# Altium footprint library WiCAN_lib.PcbLib: 21 footprints (part 1 of 2)
Each footprint in its own frame and in the unit in brackets; x right, y up, seen from the top. Pads: shape width x height; smd on the part's side, far side on the other; paste and mask are expansions set on the pad; w line width, h text height; cw(c..) or ccw(c..) is an arc to the next point about the centre after c.
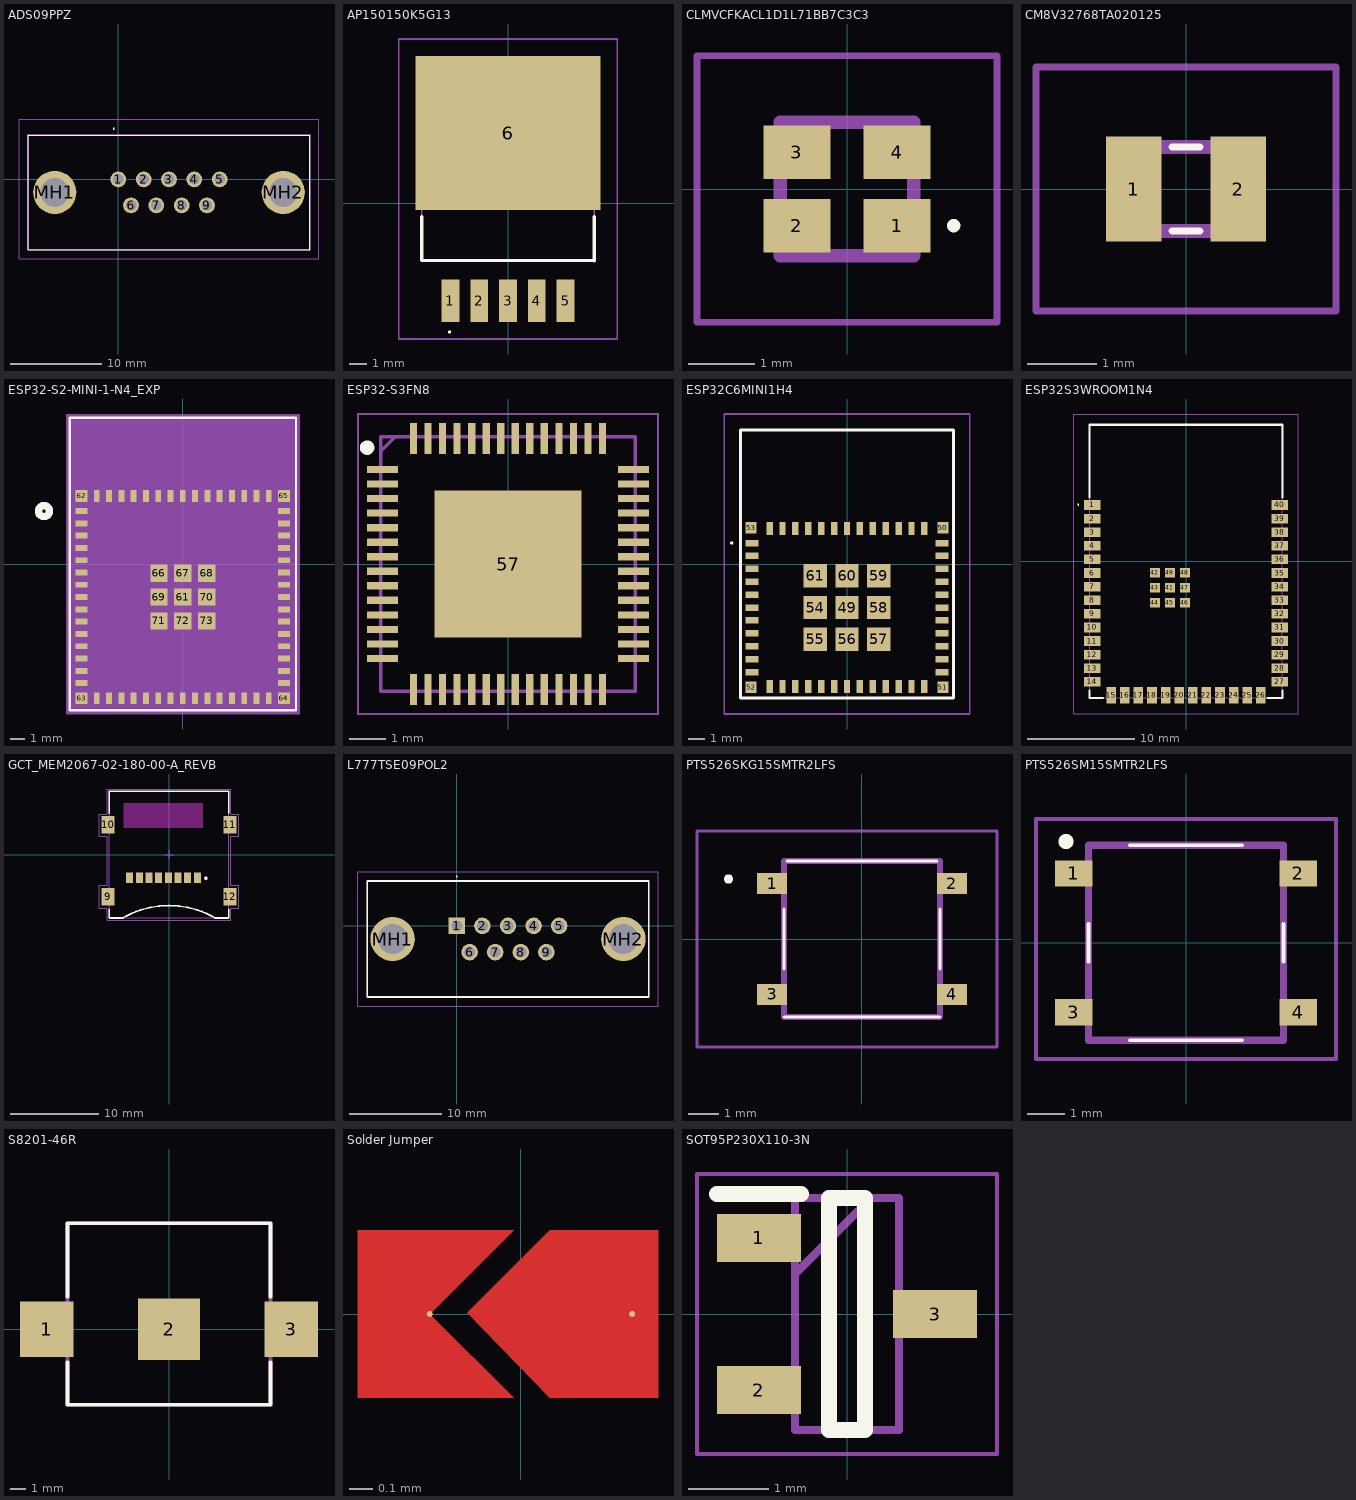
[diagram p0: the footprints below, top view; thin cyan lines are the x and y axes]

## ADS09PPZ [mm]
pads (11):
  round 1.725 hole 1.15: 1(0,0) 2(2.77,0) 3(5.54,0) 4(8.31,0) 5(11.08,0) 6(1.385,-2.84) 7(4.155,-2.84) 8(6.925,-2.84) 9(9.695,-2.84)
  round 4.725 hole 3.15: MH1(-6.955,-1.42) MH2(18.035,-1.42)
Top Overlay:
  lines w0.1: -9.865,-7.695 -9.865,4.855 20.945,4.855 20.945,-7.695 -9.865,-7.695 ; -0.5,5.5 cw(c-0.5,5.55) -0.5,5.6 cw(c-0.5,5.55) -0.5,5.5
Mechanical 13:
  lines w0.2: -9.865,-7.695 -9.865,4.855 20.945,4.855 20.945,-7.695 -9.865,-7.695
Mechanical 15:
  lines w0.1: -10.865,-8.695 -10.865,6.6 21.945,6.6 21.945,-8.695 -10.865,-8.695
3D body "connector_a-ds_09_pp_z.stp": height 12.6, standoff -4.6, extent -9.865,-7.695 20.945,4.855

## AP150150K5G13 [mm]
pads (6):
  rect 1.05x2.5 smd: 1(-3.4,-5.765) 2(-1.7,-5.765) 3(0,-5.765) 4(1.7,-5.765) 5(3.4,-5.765)
  rect 10.9x9.1 smd: 6(0,4.135)
Top Overlay:
  lines w0.1: -3.5,-7.6 ccw(c-3.45,-7.6) -3.4,-7.6 ccw(c-3.45,-7.6) -3.5,-7.6
  lines w0.2: -5.08,-0.8 -5.08,-3.385 5.08,-3.4 5.08,-0.8
Mechanical 13:
  lines w0.1: -5.08,-3.385 -5.08,5.765 5.08,5.765 5.08,-3.385 -5.08,-3.385
Mechanical 15:
  lines w0.1: -6.45,-8.015 -6.45,9.685 6.45,9.685 6.45,-8.015 -6.45,-8.015
3D body: height 4.85, standoff 0, extent -5.512,-3.327 5.486,8.712

## CLMVCFKACL1D1L71BB7C3C3 [mm]
pads (4):
  rect 1x0.8 smd: 1(0.75,-0.55) 2(-0.75,-0.55) 3(-0.75,0.55) 4(0.75,0.55)
Top Overlay:
  lines w0.1: 1.6,-0.6 ccw(c1.6,-0.55) 1.6,-0.5 ccw(c1.6,-0.55) 1.6,-0.6
Mechanical 13:
  lines w0.2: -1,-1 -1,1 1,1 1,-1 -1,-1
Mechanical 15:
  lines w0.1: -2.25,-2 -2.25,2 2.25,2 2.25,-2 -2.25,-2
3D body "CLMVC-FKA-CL1D1L71BB7C3C3.stp": height 1.1, standoff 0, extent -1,-1 1,1

## CM8V32768TA020125 [mm]
pads (2):
  rect 0.8x1.5 smd: 1(-0.75,0) 2(0.75,0)
Top Overlay:
  lines w0.1: -0.2,-0.6 0.2,-0.6 ; -0.2,0.6 0.2,0.6
Mechanical 13:
  lines w0.2: -1,-0.6 -1,0.6 1,0.6 1,-0.6 -1,-0.6
Mechanical 15:
  lines w0.1: -2.15,-1.75 -2.15,1.75 2.15,1.75 2.15,-1.75 -2.15,-1.75
3D body "CM8V-T1A-32.768kHz-7pF-20PPM-TA-QC.stp": height 0.6, standoff 0, extent -1,-0.6 1,0.6

## ESP32-S2-MINI-1-N4_EXP [mil]
pads (73):
  rect 32x16 smd paste+0 mask+0: 1(-275.59,144.15) 2(-275.59,110.69) 3(-275.59,77.22) 4(-275.59,43.76) 5(-275.59,10.29) 6(-275.59,-23.17) 7(-275.59,-56.63) 8(-275.59,-90.1) 9(-275.59,-123.56) 10(-275.59,-157.03) 11(-275.59,-190.49) 12(-275.59,-223.96) 13(-275.59,-257.42) 14(-275.59,-290.89) 15(-275.59,-324.35) 31(275.59,-324.35) 32(275.59,-290.89) 33(275.59,-257.42) 34(275.59,-223.96) 35(275.59,-190.49) 36(275.59,-157.03) 37(275.59,-123.56) 38(275.59,-90.1) 39(275.59,-56.63) 40(275.59,-23.17) 41(275.59,10.29) 42(275.59,43.76) 43(275.59,77.22) 44(275.59,110.69) 45(275.59,144.15)
  rect 16x32 smd: 16(-234.25,-365.69) 17(-200.79,-365.69) 18(-167.32,-365.69) 19(-133.86,-365.69) 20(-100.39,-365.69) 21(-66.93,-365.69) 22(-33.46,-365.69) 23(0,-365.69) 24(33.46,-365.69) 25(66.93,-365.69) 26(100.39,-365.69) 27(133.86,-365.69) 28(167.32,-365.69) 29(200.79,-365.69) 30(234.25,-365.69) 46(234.25,185.49) 47(200.79,185.49) 48(167.32,185.49) 49(133.86,185.49) 50(100.39,185.49) 51(66.93,185.49) 52(33.46,185.49) 53(0,185.49) 54(-33.46,185.49) 55(-66.93,185.49) 56(-100.39,185.49) 57(-133.86,185.49) 58(-167.32,185.49) 59(-200.79,185.49) 60(-234.25,185.49)
  rect 47x47 smd: 61(0,-90.1) 66(-64.96,-25.14) 67(0,-25.14) 68(64.96,-25.14) 69(-64.96,-90.1) 70(64.96,-90.1) 71(-64.96,-155.06) 72(0,-155.06) 73(64.96,-155.06)
  rect 32x32 smd: 62(-275.59,185.49) 63(-275.59,-365.69) 64(275.59,-365.69) 65(275.59,185.49)
Top Overlay:
  circle w20: c-378,144.15 r15
  lines w6: -308,-398.5 -308,398.5 308,398.5 308,-398.5 -308,-398.5
Bottom Overlay:
  circle w20: c-378,144.15 r15
Mechanical 5:
  region: -318,408.5 318,408.5 318,-408.5 -318,-408.5
Mechanical 13:
  circle w20: c-275.59,219.15 r15
  lines w1: -303,-393.5 -303,393.5 303,393.5 303,-393.5 -303,-393.5
Mechanical 15:
  region: 313,403.5 -313,403.5 -313,-403.5 313,-403.5
  lines w6: -313,-403.5 313,-403.5 313,403.5 -313,403.5 -313,-403.5
3D body "ESP32-S2-MINI-1-N4.STEP": height 100.39, standoff 0, extent -303.28,-395.27 303.02,392.13
3D body: height 10, standoff 0, extent 0,0 10,10

## ESP32-S3FN8 [mm]
pads (57):
  rect 0.85x0.2 smd: 1(-3.45,2.6) 2(-3.45,2.2) 3(-3.45,1.8) 4(-3.45,1.4) 5(-3.45,1) 6(-3.45,0.6) 7(-3.45,0.2) 8(-3.45,-0.2) 9(-3.45,-0.6) 10(-3.45,-1) 11(-3.45,-1.4) 12(-3.45,-1.8) 13(-3.45,-2.2) 14(-3.45,-2.6) 29(3.45,-2.6) 30(3.45,-2.2) 31(3.45,-1.8) 32(3.45,-1.4) 33(3.45,-1) 34(3.45,-0.6) 35(3.45,-0.2) 36(3.45,0.2) 37(3.45,0.6) 38(3.45,1) 39(3.45,1.4) 40(3.45,1.8) 41(3.45,2.2) 42(3.45,2.6)
  rect 0.2x0.85 smd: 15(-2.6,-3.45) 16(-2.2,-3.45) 17(-1.8,-3.45) 18(-1.4,-3.45) 19(-1,-3.45) 20(-0.6,-3.45) 21(-0.2,-3.45) 22(0.2,-3.45) 23(0.6,-3.45) 24(1,-3.45) 25(1.4,-3.45) 26(1.8,-3.45) 27(2.2,-3.45) 28(2.6,-3.45) 43(2.6,3.45) 44(2.2,3.45) 45(1.8,3.45) 46(1.4,3.45) 47(1,3.45) 48(0.6,3.45) 49(0.2,3.45) 50(-0.2,3.45) 51(-0.6,3.45) 52(-1,3.45) 53(-1.4,3.45) 54(-1.8,3.45) 55(-2.2,3.45) 56(-2.6,3.45)
  rect 4.05x4.05 smd: 57(0,0)
Top Overlay:
  circle w0.2: c-3.875,3.2 r0.1
Mechanical 15:
  lines w0.1: -3.5,3.1 -3.1,3.5 ; -3.5,-3.5 -3.5,3.5 3.5,3.5 3.5,-3.5 -3.5,-3.5
Mechanical 20:
  lines w0.05: -4.125,-4.125 -4.125,4.125 4.125,4.125 4.125,-4.125 -4.125,-4.125
3D body "ESP32-S3FN8.stp": height 0.9, standoff 0, extent -3.55,-3.55 3.55,3.55

## ESP32C6MINI1H4 [mm]
pads (61):
  rect 0.8x0.4 smd: 1(-5.9,1.3) 2(-5.9,0.5) 3(-5.9,-0.3) 4(-5.9,-1.1) 5(-5.9,-1.9) 6(-5.9,-2.7) 7(-5.9,-3.5) 8(-5.9,-4.3) 9(-5.9,-5.1) 10(-5.9,-5.9) 11(-5.9,-6.7) 25(5.9,-6.7) 26(5.9,-5.9) 27(5.9,-5.1) 28(5.9,-4.3) 29(5.9,-3.5) 30(5.9,-2.7) 31(5.9,-1.9) 32(5.9,-1.1) 33(5.9,-0.3) 34(5.9,0.5) 35(5.9,1.3)
  rect 0.4x0.8 smd: 12(-4.8,-7.6) 13(-4,-7.6) 14(-3.2,-7.6) 15(-2.4,-7.6) 16(-1.6,-7.6) 17(-0.8,-7.6) 18(0,-7.6) 19(0.8,-7.6) 20(1.6,-7.6) 21(2.4,-7.6) 22(3.2,-7.6) 23(4,-7.6) 24(4.8,-7.6) 36(4.8,2.2) 37(4,2.2) 38(3.2,2.2) 39(2.4,2.2) 40(1.6,2.2) 41(0.8,2.2) 42(0,2.2) 43(-0.8,2.2) 44(-1.6,2.2) 45(-2.4,2.2) 46(-3.2,2.2) 47(-4,2.2) 48(-4.8,2.2)
  rect 1.45x1.45 smd: 49(0,-2.7) 54(-1.975,-2.7) 55(-1.975,-4.675) 56(0,-4.675) 57(1.975,-4.675) 58(1.975,-2.7) 59(1.975,-0.725) 60(0,-0.725) 61(-1.975,-0.725)
  rect 0.7x0.7 smd: 50(5.95,2.25) 51(5.95,-7.65) 52(-5.95,-7.65) 53(-5.95,2.25)
Top Overlay:
  lines w0.1: -7.2,1.3 ccw(c-7.15,1.3) -7.1,1.3 ccw(c-7.15,1.3) -7.2,1.3
  lines w0.2: -6.6,-8.3 -6.6,8.3 6.6,8.3 6.6,-8.3 -6.6,-8.3
Mechanical 13:
  lines w0.1: -6.6,-8.3 -6.6,8.3 6.6,8.3 6.6,-8.3 -6.6,-8.3
Mechanical 15:
  lines w0.1: -7.6,-9.3 -7.6,9.3 7.6,9.3 7.6,-9.3 -7.6,-9.3
3D body: height 2.79, standoff 0.25, extent -6.49,2.839 6.54,8.439
3D body "ESP32-C6-MINI-1-H4.stp": height 2.65, standoff 0, extent -6.6,-8.3 6.6,8.3

## ESP32S3WROOM1N4 [mm]
pads (49):
  rect 1.5x0.9 smd: 1(-8.75,5.26) 2(-8.75,3.99) 3(-8.75,2.72) 4(-8.75,1.45) 5(-8.75,0.18) 6(-8.75,-1.09) 7(-8.75,-2.36) 8(-8.75,-3.63) 9(-8.75,-4.9) 10(-8.75,-6.17) 11(-8.75,-7.44) 12(-8.75,-8.71) 13(-8.75,-9.98) 14(-8.75,-11.25) 27(8.75,-11.25) 28(8.75,-9.98) 29(8.75,-8.71) 30(8.75,-7.44) 31(8.75,-6.17) 32(8.75,-4.9) 33(8.75,-3.63) 34(8.75,-2.36) 35(8.75,-1.09) 36(8.75,0.18) 37(8.75,1.45) 38(8.75,2.72) 39(8.75,3.99) 40(8.75,5.26)
  rect 0.9x1.5 smd: 15(-6.985,-12.5) 16(-5.715,-12.5) 17(-4.445,-12.5) 18(-3.175,-12.5) 19(-1.905,-12.5) 20(-0.635,-12.5) 21(0.635,-12.5) 22(1.905,-12.5) 23(3.175,-12.5) 24(4.445,-12.5) 25(5.715,-12.5) 26(6.985,-12.5)
  rect 0.9x0.9 smd: 41(-1.5,-2.46) 42(-2.9,-1.06) 43(-2.9,-2.46) 44(-2.9,-3.86) 45(-1.5,-3.86) 46(-0.1,-3.86) 47(-0.1,-2.46) 48(-0.1,-1.06) 49(-1.5,-1.06)
Top Overlay:
  lines w0.1: -10.1,5.3 cw(c-10.05,5.3) -10,5.3 cw(c-10.05,5.3) -10.1,5.3
  lines w0.2: -9,-12.05 -9,-12.75 -7.765,-12.75 ; -9,5.95 -9,12.75 9,12.75 9,5.95 ; 7.635,-12.75 9,-12.75 9,-12.05
Mechanical 13:
  lines w0.1: -9,-12.75 9,-12.75 9,12.75 -9,12.75 -9,-12.75
Mechanical 15:
  lines w0.1: -10.5,-14.25 10.5,-14.25 10.5,13.75 -10.5,13.75 -10.5,-14.25
3D body "ESP32-S3-WROOM.step": height 3.11, standoff -0.05, extent -9.01,-12.76 9.01,12.75

## GCT_MEM2067-02-180-00-A_REVB [mm]
pads (12):
  rect 0.8x1.2 smd: 1(3.225,-2.625) 2(2.125,-2.625) 3(1.025,-2.625) 4(-0.075,-2.625) 5(-1.175,-2.625) 6(-2.275,-2.625) 7(-3.375,-2.625) 8(-4.475,-2.625)
  rect 1.5x2 smd: 9(-6.945,-4.825) 10(-6.945,3.375) 11(6.945,3.375) 12(6.945,-4.825)
Top Overlay:
  circle w0.2: c4.2,-2.7 r0.1
  lines w0.2: -6.8,-6.275 -6.8,-7.225 -5.25,-7.225 ; -6.8,4.725 -6.8,7.225 6.8,7.225 6.8,4.725 ; -5.226,-7.211 cw(c0,-16.264) 5.226,-7.211 ; 5.25,-7.225 6.8,-7.225 6.8,-6.275
Keep-Out Layer:
  region: 3.85,3.028 -5.155,3.028 -5.155,5.825 3.85,5.825
Mechanical 13:
  lines w0.1: -6.8,2.77 -7.3,2.77 -7.3,3.97 -6.8,3.97 ; -0.5,0 0.5,0 ; 0,-0.5 0,0.5 ; -6.8,-5.4 -7.3,-5.4 -7.3,-4.2 -6.8,-4.2 ; -6.8,-5.4 -6.8,-4.2 ; -6.8,-5.4 -6.8,-7.225 6.8,-7.225 6.8,-5.4 ; -6.8,-4.2 -6.8,7.225 6.8,7.225 6.8,3.97 ; 6.8,-5.4 6.8,-4.2 ; 6.8,-5.4 7.3,-5.4 7.3,-4.2 6.8,-4.2 ; 6.8,-4.2 6.8,2.77 ; 6.8,2.77 6.8,3.97 ; 6.8,2.77 7.3,2.77 7.3,3.97 6.8,3.97
Mechanical 15:
  lines w0.05: -7.95,-6.096 -7.061,-6.096 -7.061,-7.468 7.061,-7.468 7.061,-6.096 7.95,-6.096 7.95,-3.505 7.061,-3.505 7.061,2.108 7.95,2.108 7.95,4.597 7.061,4.597 7.061,7.468 -7.061,7.468 -7.061,4.597 -7.95,4.597 -7.95,2.108 -7.061,2.108 -7.061,-3.505 -7.95,-3.505 -7.95,-6.096
3D body "MEM2067-02-180-00-A.STEP": height 1.8, standoff 0, extent -7.3,-7.225 7.3,7.225

## L777TSE09POL2 [mm]
pads (11):
  rect 1.785x1.785 hole 1.19: 1(0,0)
  round 1.785 hole 1.19: 2(2.77,0) 3(5.54,0) 4(8.31,0) 5(11.08,0) 6(1.385,-2.84) 7(4.155,-2.84) 8(6.925,-2.84) 9(9.695,-2.84)
  round 4.8 hole 3.2: MH1(-6.955,-1.42) MH2(18.035,-1.42)
Top Overlay:
  lines w0.1: 0,5.3 ccw(c0,5.35) 0,5.4 ccw(c0,5.35) 0,5.3
  lines w0.2: -9.7,-7.695 -9.7,4.855 20.78,4.855 20.78,-7.695 -9.7,-7.695
Mechanical 13:
  lines w0.1: -9.7,-7.695 -9.7,4.855 20.78,4.855 20.78,-7.695 -9.7,-7.695
Mechanical 15:
  lines w0.1: -10.7,-8.695 -10.7,5.855 21.78,5.855 21.78,-8.695 -10.7,-8.695
3D body "L717TSE09POL2_L777TSE09POL2_L717TSE09POL2C309.stp": height 12, standoff -3.4, extent -9.893,-7.697 20.917,4.853

## PCBComponent_1 [mm]

## PTS526SKG15SMTR2LFS [mm]
pads (4):
  rect 1x0.7 smd: 1(-3,1.85) 2(3,1.85) 3(-3,-1.85) 4(3,-1.85)
Top Overlay:
  lines w0.1: -2.6,-2.6 2.6,-2.6 -2.6,-2.6 ; -2.6,-1 -2.6,1 -2.6,-1 ; -2.5,2.6 2.5,2.6 -2.5,2.6 ; 2.6,-1 2.6,1 2.6,-1
  lines w0.2: -4.5,2 cw(c-4.45,2) -4.4,2 ; -4.5,2 ccw(c-4.45,2) -4.4,2 ; -4.5,2 -4.4,2
Mechanical 13:
  lines w0.2: -2.6,-2.6 -2.6,2.6 2.6,2.6 2.6,-2.6 -2.6,-2.6
Mechanical 15:
  lines w0.1: -5.5,-3.6 -5.5,3.6 4.5,3.6 4.5,-3.6 -5.5,-3.6
3D body "PTS526_SK08_SMTR2_LFS.stp": height 0.85, standoff 0, extent -3.2,-2.4 3.2,2.4

## PTS526SM15SMTR2LFS [mm]
pads (4):
  rect 1x0.7 smd: 1(-3,1.85) 2(3,1.85) 3(-3,-1.85) 4(3,-1.85)
Top Overlay:
  lines w0.1: -2.6,-0.5 -2.6,0.5 ; -1.5,-2.6 1.5,-2.6 ; -1.5,2.6 1.5,2.6 ; 2.6,-0.5 2.6,0.5
  lines w0.2: -3.2,2.6 cw(c-3.2,2.7) -3.2,2.8 cw(c-3.2,2.7) -3.2,2.6
Mechanical 13:
  lines w0.2: -2.6,-2.6 2.6,-2.6 2.6,2.6 -2.6,2.6 -2.6,-2.6
Mechanical 15:
  lines w0.1: -4,-3.1 4,-3.1 4,3.3 -4,3.3 -4,-3.1
3D body "PTS526_SM15_SMTR2_LFS.stp": height 1.55, standoff 0, extent -3.2,-2.6 3.2,2.6

## S8201-46R [mm]
pads (3):
  rect 3.5x3.6 smd: 1(-7.95,0) 3(7.95,0)
  rect 4x4 smd: 2(0,0)
Top Overlay:
  lines w0.254: -6.6,-2.15 -6.6,-4.9 6.6,-4.9 6.6,-2.15 ; -6.6,2.15 -6.6,6.9 6.6,6.9 6.6,2.15
Mechanical 13:
  lines w0.254: -6.6,-4.9 -6.6,6.9 6.6,6.9 6.6,-4.9 -6.6,-4.9
3D body "S8201-46R.stp": height 3.2, standoff 0, extent -9.5,-4.907 9.5,6.912

## Solder Jumper [mil]
pads (2):
  round 1 smd paste+0: 1(-15,0) 2(18.3,0)
Top Layer:
  region: -26.81,-13.78 -26.81,13.78 -1.22,13.78 -15,0 -1.22,-13.78
  region: 4.77,-13.78 -8.81,0.2 4.77,13.78 22.55,13.78 22.55,-13.78

## SOT95P230X110-3N [mm]
pads (3):
  rect 1.05x0.6 smd: 1(-1.1,0.95) 2(-1.1,-0.95) 3(1.1,0)
Top Overlay:
  lines w0.2: -1.625,1.5 -0.575,1.5 ; -0.225,-1.45 -0.225,1.45 0.225,1.45 0.225,-1.45 -0.225,-1.45
Mechanical 13:
  lines w0.1: -0.65,0.5 0.3,1.45 ; -0.65,-1.45 -0.65,1.45 0.65,1.45 0.65,-1.45 -0.65,-1.45
Mechanical 15:
  lines w0.05: -1.875,-1.75 -1.875,1.75 1.875,1.75 1.875,-1.75 -1.875,-1.75
3D body "PESD2CANFD24U-TR.stp": height 0.95, standoff 0, extent -1.201,-1.448 1.199,1.452